# Altium schematic symbol library Header.SchLib: 9 symbols
Pins are listed as number, name and electrical type; pins without a type are passive.

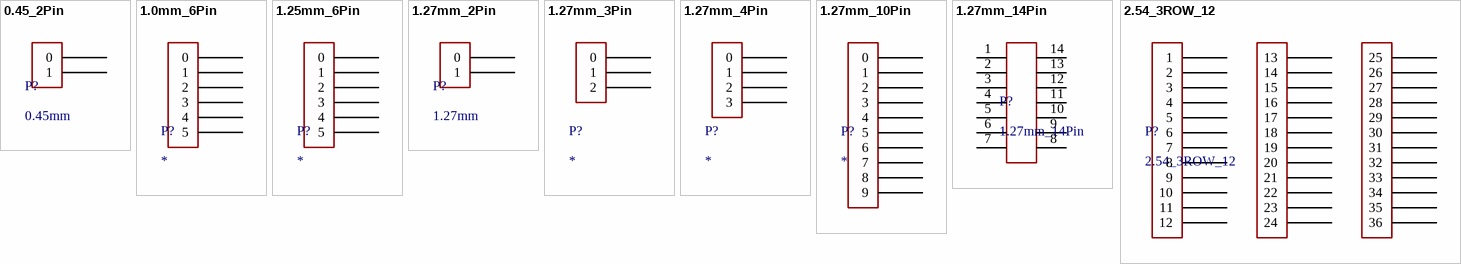
[diagram p0: symbols 0.45_2Pin to 2.54_3ROW_12]

## 0.45_2Pin
designator P?, comment 0.45mm
footprint 0.45mm2Pin
pins: 0, 1

## 1.0mm_6Pin
designator P?
footprint 1.0mm_6Pin_卧贴
pins: 0, 1, 2, 3, 4, 5

## 1.25mm_6Pin
designator P?
footprint 1.25mm_6Pin_卧贴
footprint 1.27mm_6P_贴片
pins: 0, 1, 2, 3, 4, 5

## 1.27mm_2Pin
designator P?, comment 1.27mm
footprint 1.27mm_2P_贴片
pins: 0, 1

## 1.27mm_3Pin
designator P?
footprint 1.27mm_3Pin_排针
pins: 0, 1, 2

## 1.27mm_4Pin
designator P?
footprint 1.27mm_4Pin_排针
footprint 1.27mm_4P_贴片
footprint 1.27mm_4P_直插双排
pins: 0, 1, 2, 3

## 1.27mm_10Pin
designator P?
footprint 1.27_10PIN_Header
footprint 1.27_10PIN_Female
pins: 0, 1, 2, 3, 4, 5, 6, 7, 8, 9

## 1.27mm_14Pin
designator P?
footprint 1.27mm_14Pin
pins: 1, 2, 3, 4, 5, 6, 7, 8, 9, 10, 11, 12, 13, 14

## 2.54_3ROW_12
designator P?
footprint 3ROW_12PIN_2.54
pins: 1, 2, 3, 4, 5, 6, 7, 8, 9, 10, 11, 12, 13, 14, 15, 16, 17, 18, 19, 20, 21, 22, 23, 24, 25, 26, 27, 28, 29, 30, 31, 32, 33, 34, 35, 36